# Altium footprint library Guitar_Effects.PcbLib: 8 footprints
Each footprint in its own frame and in the unit in brackets; x right, y up, seen from the top. Pads: shape width x height; smd on the part's side, far side on the other; paste and mask are expansions set on the pad; w line width, h text height; cw(c..) or ccw(c..) is an arc to the next point about the centre after c.
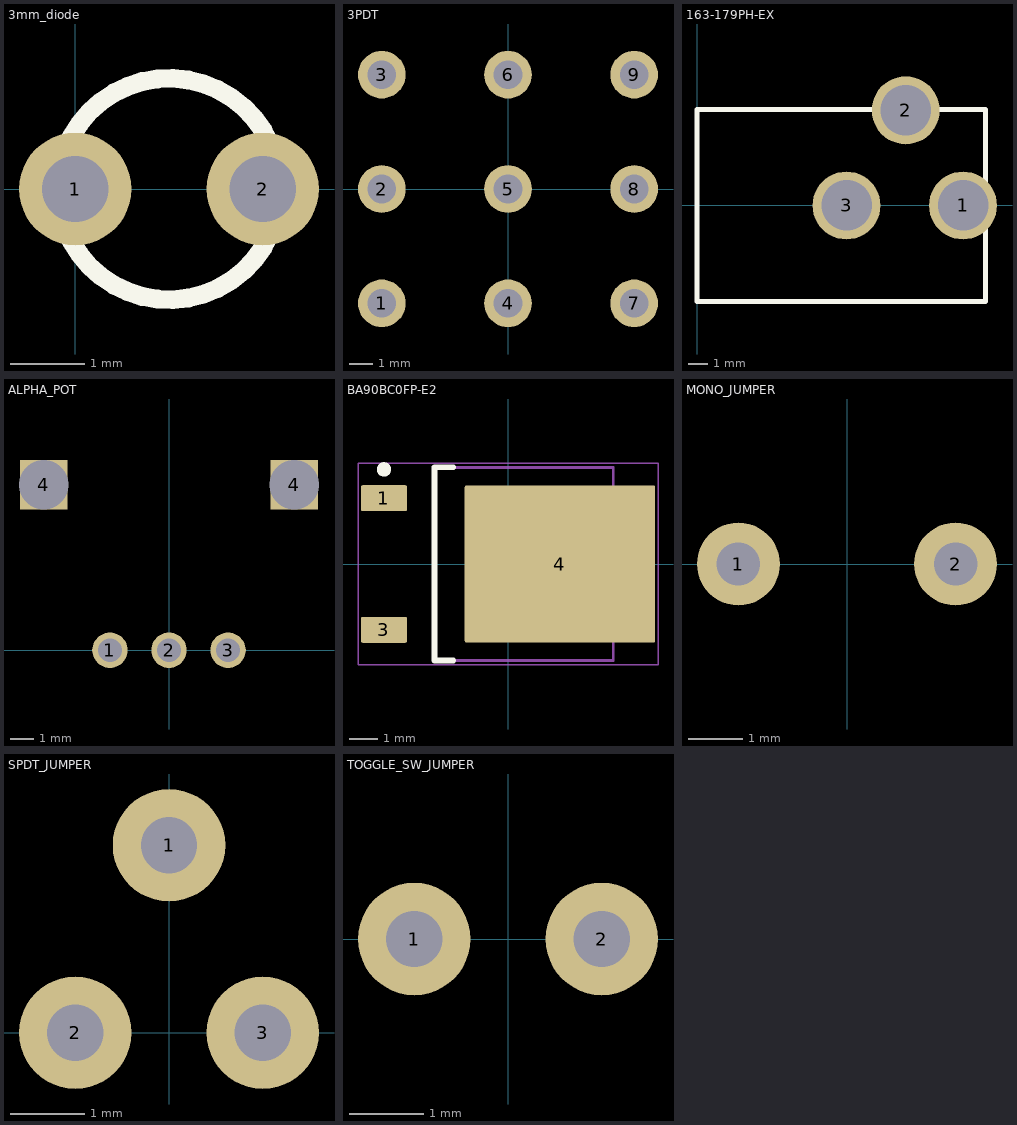
[diagram p0: the footprints below, top view; thin cyan lines are the x and y axes]

## 3mm_diode [mil]
pads (2):
  round 60 hole 35.43: 1(0,0) 2(100,0)
Top Overlay:
  circle w10: c50,0 r59.06

## 3PDT [mm] "FS57003PLT2B2M1QEH"
pads (9):
  round 2 hole 1.2: 1(-5.3,-4.8) 2(-5.3,0) 3(-5.3,4.8) 4(0,-4.8) 5(0,0) 6(0,4.8) 7(5.3,-4.8) 8(5.3,0) 9(5.3,4.8)

## 163-179PH-EX [mm] "2.1mm ID barrel jack"
pads (3):
  round 3.5 hole 2.6: 1(13.7,0) 2(10.75,4.9) 3(7.7,0)
Top Overlay:
  lines w0.254: 0,-4.953 14.859,-4.953 14.859,4.953 0,4.953 0,0 0,-4.953

## ALPHA_POT [mm]
pads (5):
  round 1.5 hole 1: 1(-2.5,0) 2(0,0) 3(2.5,0)
  rect 2x2.1 hole 2.1 square: 4(-5.3,7) 4(5.3,7)

## BA90BC0FP-E2 [mm] "D-PAK, 4-Leads, Body 6.1x6.6mm, Pitch 2.29mm, Lead Span 9.7mm, IPC High Density"
height 2.38
pads (3):
  rrect11% 1.6x0.9 smd: 1(-4.3,2.28) 3(-4.3,-2.28)
  rrect2% 6.6x5.45 smd: 4(1.8,0)
Top Overlay:
  circle w0.25: c-4.3,3.28 r0.125
  lines w0.2: -1.9,-3.35 -2.55,-3.35 -2.55,3.35 -1.9,3.35
Mechanical 1:
  text ".Designator" at -1.524,-0.508 h1.02
Mechanical 13:
  lines w0.1: -2.55,-3.35 3.65,-3.35 3.65,3.35 -2.55,3.35 -2.55,-3.35
Mechanical 15:
  lines w0.05: -5.2,-3.5 5.2,-3.5 5.2,3.5 -5.2,3.5 -5.2,-3.5
  lines w0.1: -0.5,0 0.5,0 ; 0,-0.5 0,0.5
3D body: height 2.38, standoff 0, extent -2.549,-3.349 3.649,3.349

## MONO_JUMPER [mm]
pads (2):
  round 1.524 hole 0.8: 1(-2,0) 2(2,0)

## SPDT_JUMPER [mil]
pads (3):
  round 60 hole 30: 1(0,100) 2(-50,0) 3(50,0)

## TOGGLE_SW_JUMPER [mil]
pads (2):
  round 60 hole 30: 1(-50,0) 2(50,0)